# Altium integrated library Linear Technology Power Management Hot Swap Controllers.IntLib: 992 symbols (part 3 of 93)
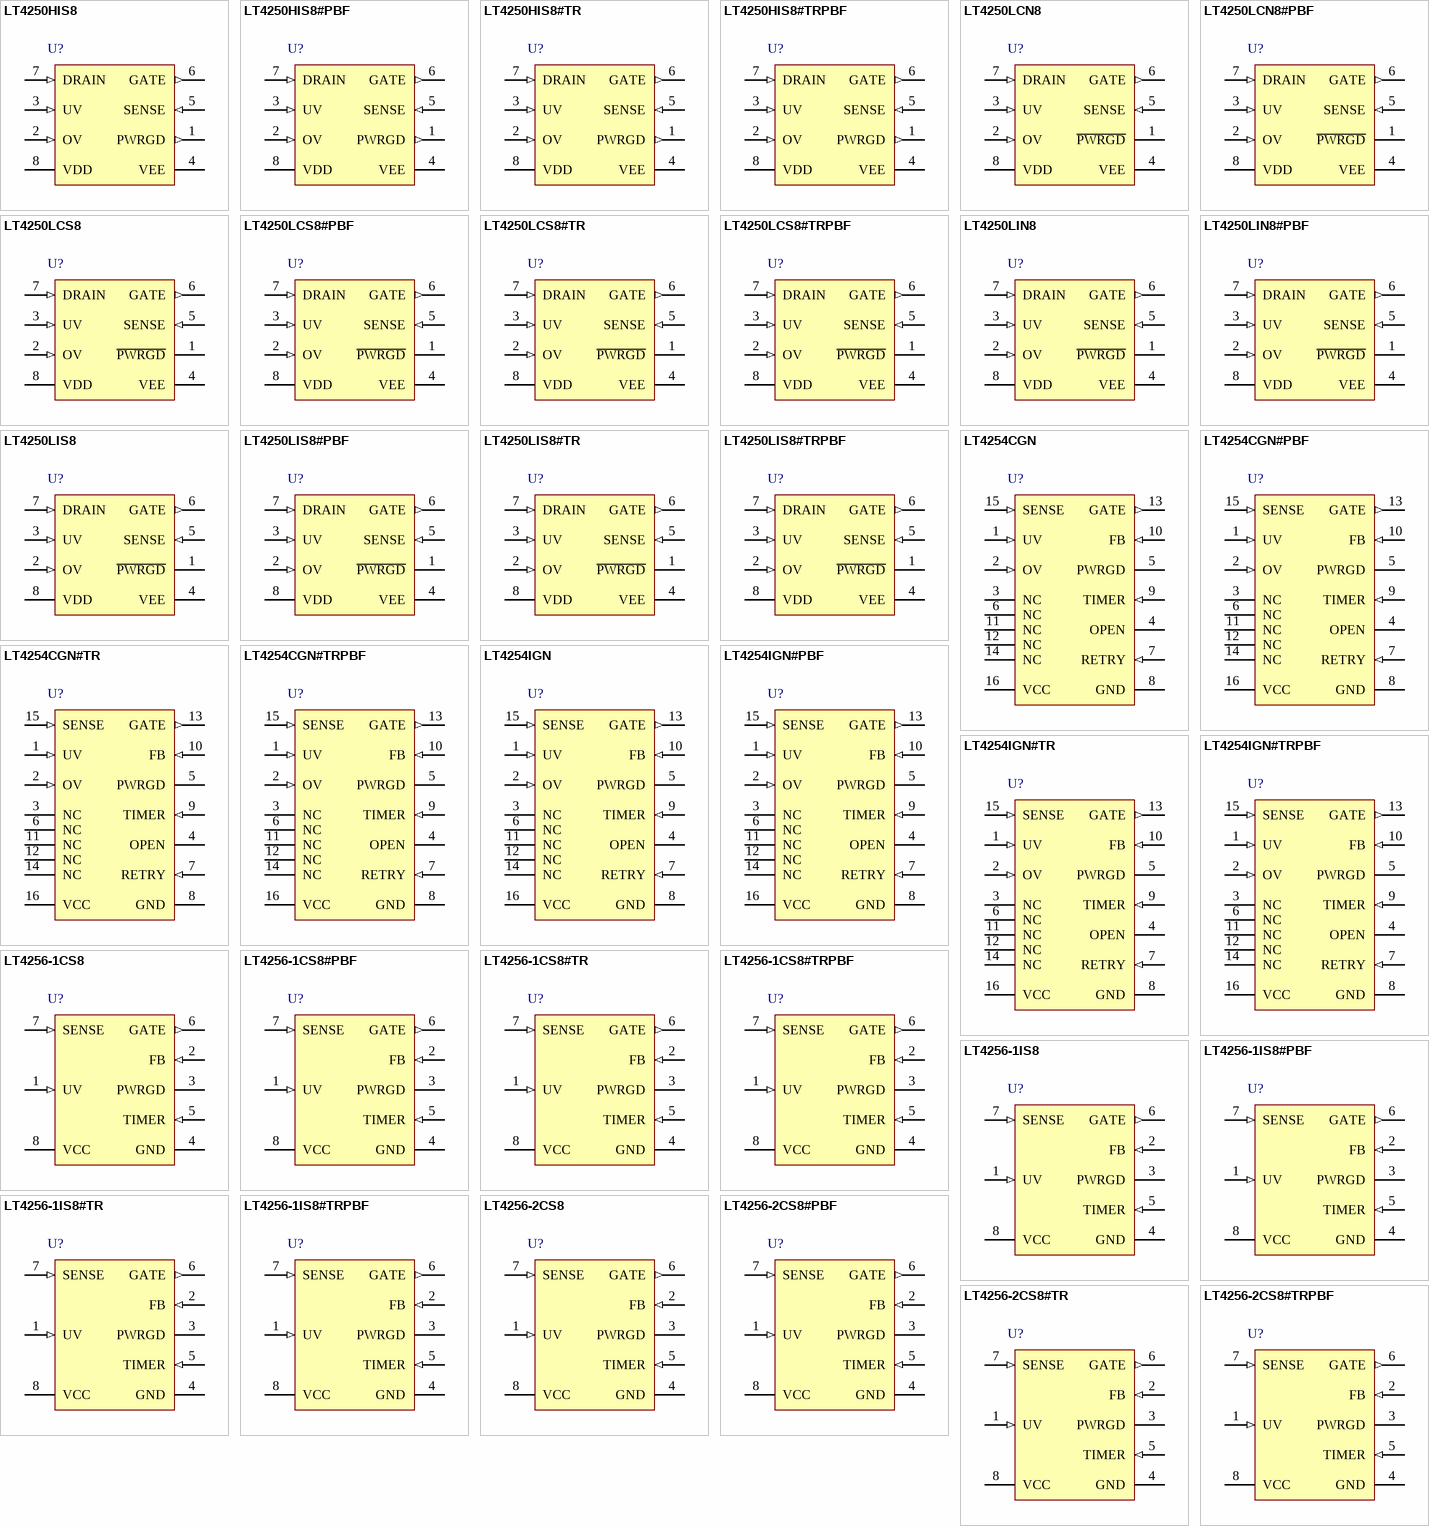
[diagram p39: symbols LT4250HIS8 to LT4256-2CS8#TRPBF]

## LT4250HIS8
designator U?
Negative 48 V Hot Swap Controller, -18 to -80 V Vin, 8-pin SOIC (S8-8), -40 to 85 degC; Manufacturer: Linear Technology; PartNumber: LT4250HIS8; Active Limiting: yes; Circuit Breaker Accuracy(%): 20; Circuit Breaker Threshold: 50 mV; Circuit Breakers(#): 1; Extended Temp: C, I; Fast Comparator: no; In-Rush Current: Miller Cap; DatasheetVersion: Rev. A; PackageVersion: Rev. G, 03/2012; PackageReference: S8-8; PackageDescription: 8-Pin Plastic Small Outline (Narrow .150 Inch), Body 4.9 x 3.9 mm, Pitch 1.27 mm; Supplier 1: Digi-Key; Supplier Part Number 1: LT4250HIS8-ND; Power Good: yes; RoHS: FALSE; Vin Range: -18 to -80 V; Mounting Technology: Surface Mount; ComponentLink1Description: Manufacturer URL; ComponentLink1URL: http://www.linear.com/; ComponentLink2Description: Datasheet; ComponentLink2URL: http://cds.linear.com/docs/en/datasheet/4250lhfa.pdf; ComponentLink3Description: Package Specification; ComponentLink3URL: http://cds.linear.com/docs/en/packaging/05081610_G_SO8.pdf
footprint LT-S8-8_N (SOIC, 8-Leads, Body 5x4mm, Pitch 1.27mm, IPC Medium Density)
footprint LT-S8-8_L (SOIC, 8-Leads, Body 5x4mm, Pitch 1.27mm, IPC High Density)
footprint LT-S8-8_M (SOIC, 8-Leads, Body 5x4mm, Pitch 1.27mm, IPC Low Density)
pins: 1 PWRGD (out) "Power Good Output Pin.This pin will latch a power good indication when VDRAIN is within VDL of VEE and VGATE is within VGH of deltaVGATE. This pin can be connected directly to the enable pin of a power module.", 2 OV (in) "Analog Overvoltage Input.", 3 UV (in) "Analog Undervoltage Input.", 4 VEE (power) "Negative Supply Voltage Input. Connect to the lower potential of the power supply.", 5 SENSE (in) "Circuit Breaker Sense Pin.", 6 GATE (out) "Gate Drive Output for the External N-channel MOSFET.", 7 DRAIN (in) "Analog Drain Sense Input.", 8 VDD (power) "Positive Supply Voltage Input."

## LT4250HIS8#PBF
designator U?
Negative 48 V Hot Swap Controller, -18 to -80 V Vin, 8-pin SOIC (S8-8), -40 to 85 degC, Pb-Free; Manufacturer: Linear Technology; PartNumber: LT4250HIS8#PBF; Active Limiting: yes; Circuit Breaker Accuracy(%): 20; Circuit Breaker Threshold: 50 mV; Circuit Breakers(#): 1; Extended Temp: C, I; Fast Comparator: no; In-Rush Current: Miller Cap; DatasheetVersion: Rev. A; PackageVersion: Rev. G, 03/2012; PackageReference: S8-8; PackageDescription: 8-Pin Plastic Small Outline (Narrow .150 Inch), Body 4.9 x 3.9 mm, Pitch 1.27 mm; Supplier 1: Digi-Key; Supplier Part Number 1: LT4250HIS8#PBF-ND; Supplier 2: Newark; Supplier Part Number 2: 57M8658; Power Good: yes; RoHS: TRUE; Vin Range: -18 to -80 V; Mounting Technology: Surface Mount; ComponentLink1Description: Manufacturer URL; ComponentLink1URL: http://www.linear.com/; ComponentLink2Description: Datasheet; ComponentLink2URL: http://cds.linear.com/docs/en/datasheet/4250lhfa.pdf; ComponentLink3Description: Package Specification; ComponentLink3URL: http://cds.linear.com/docs/en/packaging/05081610_G_SO8.pdf
footprint LT-S8-8_N (SOIC, 8-Leads, Body 5x4mm, Pitch 1.27mm, IPC Medium Density)
footprint LT-S8-8_L (SOIC, 8-Leads, Body 5x4mm, Pitch 1.27mm, IPC High Density)
footprint LT-S8-8_M (SOIC, 8-Leads, Body 5x4mm, Pitch 1.27mm, IPC Low Density)
pins: 1 PWRGD (out) "Power Good Output Pin.This pin will latch a power good indication when VDRAIN is within VDL of VEE and VGATE is within VGH of deltaVGATE. This pin can be connected directly to the enable pin of a power module.", 2 OV (in) "Analog Overvoltage Input.", 3 UV (in) "Analog Undervoltage Input.", 4 VEE (power) "Negative Supply Voltage Input. Connect to the lower potential of the power supply.", 5 SENSE (in) "Circuit Breaker Sense Pin.", 6 GATE (out) "Gate Drive Output for the External N-channel MOSFET.", 7 DRAIN (in) "Analog Drain Sense Input.", 8 VDD (power) "Positive Supply Voltage Input."

## LT4250HIS8#TR
designator U?
Negative 48 V Hot Swap Controller, -18 to -80 V Vin, 8-pin SOIC (S8-8), -40 to 85 degC, Tape and Reel; Manufacturer: Linear Technology; PartNumber: LT4250HIS8#TR; Active Limiting: yes; Circuit Breaker Accuracy(%): 20; Circuit Breaker Threshold: 50 mV; Circuit Breakers(#): 1; Extended Temp: C, I; Fast Comparator: no; In-Rush Current: Miller Cap; DatasheetVersion: Rev. A; PackageVersion: Rev. G, 03/2012; PackageReference: S8-8; PackageDescription: 8-Pin Plastic Small Outline (Narrow .150 Inch), Body 4.9 x 3.9 mm, Pitch 1.27 mm; Supplier 1: Digi-Key; Supplier Part Number 1: LT4250HIS8TR-ND; Packing: Tape and Reel; Power Good: yes; RoHS: FALSE; Vin Range: -18 to -80 V; Mounting Technology: Surface Mount; ComponentLink1Description: Manufacturer URL; ComponentLink1URL: http://www.linear.com/; ComponentLink2Description: Datasheet; ComponentLink2URL: http://cds.linear.com/docs/en/datasheet/4250lhfa.pdf; ComponentLink3Description: Package Specification; ComponentLink3URL: http://cds.linear.com/docs/en/packaging/05081610_G_SO8.pdf
footprint LT-S8-8_N (SOIC, 8-Leads, Body 5x4mm, Pitch 1.27mm, IPC Medium Density)
footprint LT-S8-8_L (SOIC, 8-Leads, Body 5x4mm, Pitch 1.27mm, IPC High Density)
footprint LT-S8-8_M (SOIC, 8-Leads, Body 5x4mm, Pitch 1.27mm, IPC Low Density)
pins: 1 PWRGD (out) "Power Good Output Pin.This pin will latch a power good indication when VDRAIN is within VDL of VEE and VGATE is within VGH of deltaVGATE. This pin can be connected directly to the enable pin of a power module.", 2 OV (in) "Analog Overvoltage Input.", 3 UV (in) "Analog Undervoltage Input.", 4 VEE (power) "Negative Supply Voltage Input. Connect to the lower potential of the power supply.", 5 SENSE (in) "Circuit Breaker Sense Pin.", 6 GATE (out) "Gate Drive Output for the External N-channel MOSFET.", 7 DRAIN (in) "Analog Drain Sense Input.", 8 VDD (power) "Positive Supply Voltage Input."

## LT4250HIS8#TRPBF
designator U?
Negative 48 V Hot Swap Controller, -18 to -80 V Vin, 8-pin SOIC (S8-8), -40 to 85 degC, Pb-Free, Tape and Reel; Manufacturer: Linear Technology; PartNumber: LT4250HIS8#TRPBF; Active Limiting: yes; Circuit Breaker Accuracy(%): 20; Circuit Breaker Threshold: 50 mV; Circuit Breakers(#): 1; Extended Temp: C, I; Fast Comparator: no; In-Rush Current: Miller Cap; DatasheetVersion: Rev. A; PackageVersion: Rev. G, 03/2012; PackageReference: S8-8; PackageDescription: 8-Pin Plastic Small Outline (Narrow .150 Inch), Body 4.9 x 3.9 mm, Pitch 1.27 mm; Supplier 1: Digi-Key; Supplier Part Number 1: LT4250HIS8#TRPBF-ND; Supplier 2: Newark; Supplier Part Number 2: 57M8660; Packing: Tape and Reel; Power Good: yes; RoHS: TRUE; Vin Range: -18 to -80 V; Mounting Technology: Surface Mount; ComponentLink1Description: Manufacturer URL; ComponentLink1URL: http://www.linear.com/; ComponentLink2Description: Datasheet; ComponentLink2URL: http://cds.linear.com/docs/en/datasheet/4250lhfa.pdf; ComponentLink3Description: Package Specification; ComponentLink3URL: http://cds.linear.com/docs/en/packaging/05081610_G_SO8.pdf
footprint LT-S8-8_N (SOIC, 8-Leads, Body 5x4mm, Pitch 1.27mm, IPC Medium Density)
footprint LT-S8-8_L (SOIC, 8-Leads, Body 5x4mm, Pitch 1.27mm, IPC High Density)
footprint LT-S8-8_M (SOIC, 8-Leads, Body 5x4mm, Pitch 1.27mm, IPC Low Density)
pins: 1 PWRGD (out) "Power Good Output Pin.This pin will latch a power good indication when VDRAIN is within VDL of VEE and VGATE is within VGH of deltaVGATE. This pin can be connected directly to the enable pin of a power module.", 2 OV (in) "Analog Overvoltage Input.", 3 UV (in) "Analog Undervoltage Input.", 4 VEE (power) "Negative Supply Voltage Input. Connect to the lower potential of the power supply.", 5 SENSE (in) "Circuit Breaker Sense Pin.", 6 GATE (out) "Gate Drive Output for the External N-channel MOSFET.", 7 DRAIN (in) "Analog Drain Sense Input.", 8 VDD (power) "Positive Supply Voltage Input."

## LT4250LCN8
designator U?
Negative 48 V Hot Swap Controller, -18 to -80 V Vin, 8-pin DIP (N8-8), 0 to 70 degC; Manufacturer: Linear Technology; PartNumber: LT4250LCN8; Active Limiting: yes; Circuit Breaker Accuracy(%): 20; Circuit Breaker Threshold: 50 mV; Circuit Breakers(#): 1; Extended Temp: C, I; Fast Comparator: no; In-Rush Current: Miller Cap; DatasheetVersion: Rev. A; PackageVersion: Rev. I, 07/2011; PackageReference: N8-8; PackageDescription: 8-Pin PDIP, Body 10.16 x 6.48 mm, Pitch 2.54 mm; Supplier 1: Digi-Key; Supplier Part Number 1: LT4250LCN8-ND; Fault: no; Foldback: no; Power Good: yes; Reset: no; RoHS: FALSE; Vin Range: -18 to -80 V; Mounting Technology: Through Hole; ComponentLink1Description: Manufacturer URL; ComponentLink1URL: http://www.linear.com/; ComponentLink2Description: Datasheet; ComponentLink2URL: http://cds.linear.com/docs/en/datasheet/4250lhfa.pdf; ComponentLink3Description: Package Specification; ComponentLink3URL: http://www.linear.com/docs/en/packaging/05081510_I_N8.pdf
footprint LT-N8-8 (DIP, 8-Leads, Body 10.15x6.85mm, Pitch 2.54mm)
pins: 1 ~{PWRGD} (hiz) "Power Good Output Pin.This pin will latch a power good indication when VDRAIN is within VDL of VEE and VGATE is within VGH of deltaVGATE. This pin can be connected directly to the enable pin of a power module.", 2 OV (in) "Analog Overvoltage Input.", 3 UV (in) "Analog Undervoltage Input.", 4 VEE (power) "Negative Supply Voltage Input. Connect to the lower potential of the power supply.", 5 SENSE (in) "Circuit Breaker Sense Pin.", 6 GATE (out) "Gate Drive Output for the External N-channel MOSFET.", 7 DRAIN (in) "Analog Drain Sense Input.", 8 VDD (power) "Positive Supply Voltage Input."

## LT4250LCN8#PBF
designator U?
Negative 48 V Hot Swap Controller, -18 to -80 V Vin, 8-pin DIP (N8-8), 0 to 70 degC, Pb-Free; Manufacturer: Linear Technology; PartNumber: LT4250LCN8#PBF; Active Limiting: yes; Circuit Breaker Accuracy(%): 20; Circuit Breaker Threshold: 50 mV; Circuit Breakers(#): 1; Extended Temp: C, I; Fast Comparator: no; In-Rush Current: Miller Cap; DatasheetVersion: Rev. A; PackageVersion: Rev. I, 07/2011; PackageReference: N8-8; PackageDescription: 8-Pin PDIP, Body 10.16 x 6.48 mm, Pitch 2.54 mm; Supplier 1: Digi-Key; Supplier Part Number 1: LT4250LCN8#PBF-ND; Fault: no; Foldback: no; Power Good: yes; Reset: no; RoHS: TRUE; Vin Range: -18 to -80 V; Mounting Technology: Through Hole; ComponentLink1Description: Manufacturer URL; ComponentLink1URL: http://www.linear.com/; ComponentLink2Description: Datasheet; ComponentLink2URL: http://cds.linear.com/docs/en/datasheet/4250lhfa.pdf; ComponentLink3Description: Package Specification; ComponentLink3URL: http://www.linear.com/docs/en/packaging/05081510_I_N8.pdf
footprint LT-N8-8 (DIP, 8-Leads, Body 10.15x6.85mm, Pitch 2.54mm)
pins: 1 ~{PWRGD} (hiz) "Power Good Output Pin.This pin will latch a power good indication when VDRAIN is within VDL of VEE and VGATE is within VGH of deltaVGATE. This pin can be connected directly to the enable pin of a power module.", 2 OV (in) "Analog Overvoltage Input.", 3 UV (in) "Analog Undervoltage Input.", 4 VEE (power) "Negative Supply Voltage Input. Connect to the lower potential of the power supply.", 5 SENSE (in) "Circuit Breaker Sense Pin.", 6 GATE (out) "Gate Drive Output for the External N-channel MOSFET.", 7 DRAIN (in) "Analog Drain Sense Input.", 8 VDD (power) "Positive Supply Voltage Input."

## LT4250LCS8
designator U?
Negative 48 V Hot Swap Controller, -18 to -80 V Vin, 8-pin SOIC (S8-8), 0 to 70 degC; Manufacturer: Linear Technology; PartNumber: LT4250LCS8; Active Limiting: yes; Circuit Breaker Accuracy(%): 20; Circuit Breaker Threshold: 50 mV; Circuit Breakers(#): 1; Extended Temp: C, I; Fast Comparator: no; In-Rush Current: Miller Cap; DatasheetVersion: Rev. A; PackageVersion: Rev. G, 03/2012; PackageReference: S8-8; PackageDescription: 8-Pin Plastic Small Outline (Narrow .150 Inch), Body 4.9 x 3.9 mm, Pitch 1.27 mm; Supplier 1: Digi-Key; Supplier Part Number 1: LT4250LCS8-ND; Fault: no; Foldback: no; Power Good: yes; Reset: no; RoHS: FALSE; Vin Range: -18 to -80 V; Mounting Technology: Surface Mount; ComponentLink1Description: Manufacturer URL; ComponentLink1URL: http://www.linear.com/; ComponentLink2Description: Datasheet; ComponentLink2URL: http://cds.linear.com/docs/en/datasheet/4250lhfa.pdf; ComponentLink3Description: Package Specification; ComponentLink3URL: http://cds.linear.com/docs/en/packaging/05081610_G_SO8.pdf
footprint LT-S8-8_N (SOIC, 8-Leads, Body 5x4mm, Pitch 1.27mm, IPC Medium Density)
footprint LT-S8-8_L (SOIC, 8-Leads, Body 5x4mm, Pitch 1.27mm, IPC High Density)
footprint LT-S8-8_M (SOIC, 8-Leads, Body 5x4mm, Pitch 1.27mm, IPC Low Density)
pins: 1 ~{PWRGD} (hiz) "Power Good Output Pin.This pin will latch a power good indication when VDRAIN is within VDL of VEE and VGATE is within VGH of deltaVGATE. This pin can be connected directly to the enable pin of a power module.", 2 OV (in) "Analog Overvoltage Input.", 3 UV (in) "Analog Undervoltage Input.", 4 VEE (power) "Negative Supply Voltage Input. Connect to the lower potential of the power supply.", 5 SENSE (in) "Circuit Breaker Sense Pin.", 6 GATE (out) "Gate Drive Output for the External N-channel MOSFET.", 7 DRAIN (in) "Analog Drain Sense Input.", 8 VDD (power) "Positive Supply Voltage Input."

## LT4250LCS8#PBF
designator U?
Negative 48 V Hot Swap Controller, -18 to -80 V Vin, 8-pin SOIC (S8-8), 0 to 70 degC, Pb-Free; Manufacturer: Linear Technology; PartNumber: LT4250LCS8#PBF; Active Limiting: yes; Circuit Breaker Accuracy(%): 20; Circuit Breaker Threshold: 50 mV; Circuit Breakers(#): 1; Extended Temp: C, I; Fast Comparator: no; In-Rush Current: Miller Cap; DatasheetVersion: Rev. A; PackageVersion: Rev. G, 03/2012; PackageReference: S8-8; PackageDescription: 8-Pin Plastic Small Outline (Narrow .150 Inch), Body 4.9 x 3.9 mm, Pitch 1.27 mm; Supplier 1: Digi-Key; Supplier Part Number 1: LT4250LCS8#PBF-ND; Supplier 2: Newark; Supplier Part Number 2: 57M8664; Fault: no; Foldback: no; Power Good: yes; Reset: no; RoHS: TRUE; Vin Range: -18 to -80 V; Mounting Technology: Surface Mount; ComponentLink1Description: Manufacturer URL; ComponentLink1URL: http://www.linear.com/; ComponentLink2Description: Datasheet; ComponentLink2URL: http://cds.linear.com/docs/en/datasheet/4250lhfa.pdf; ComponentLink3Description: Package Specification; ComponentLink3URL: http://cds.linear.com/docs/en/packaging/05081610_G_SO8.pdf
footprint LT-S8-8_N (SOIC, 8-Leads, Body 5x4mm, Pitch 1.27mm, IPC Medium Density)
footprint LT-S8-8_L (SOIC, 8-Leads, Body 5x4mm, Pitch 1.27mm, IPC High Density)
footprint LT-S8-8_M (SOIC, 8-Leads, Body 5x4mm, Pitch 1.27mm, IPC Low Density)
pins: 1 ~{PWRGD} (hiz) "Power Good Output Pin.This pin will latch a power good indication when VDRAIN is within VDL of VEE and VGATE is within VGH of deltaVGATE. This pin can be connected directly to the enable pin of a power module.", 2 OV (in) "Analog Overvoltage Input.", 3 UV (in) "Analog Undervoltage Input.", 4 VEE (power) "Negative Supply Voltage Input. Connect to the lower potential of the power supply.", 5 SENSE (in) "Circuit Breaker Sense Pin.", 6 GATE (out) "Gate Drive Output for the External N-channel MOSFET.", 7 DRAIN (in) "Analog Drain Sense Input.", 8 VDD (power) "Positive Supply Voltage Input."

## LT4250LCS8#TR
designator U?
Negative 48 V Hot Swap Controller, -18 to -80 V Vin, 8-pin SOIC (S8-8), 0 to 70 degC, Tape and Reel; Manufacturer: Linear Technology; PartNumber: LT4250LCS8#TR; Active Limiting: yes; Circuit Breaker Accuracy(%): 20; Circuit Breaker Threshold: 50 mV; Circuit Breakers(#): 1; Extended Temp: C, I; Fast Comparator: no; In-Rush Current: Miller Cap; DatasheetVersion: Rev. A; PackageVersion: Rev. G, 03/2012; PackageReference: S8-8; PackageDescription: 8-Pin Plastic Small Outline (Narrow .150 Inch), Body 4.9 x 3.9 mm, Pitch 1.27 mm; Supplier 1: Digi-Key; Supplier Part Number 1: LT4250LCS8TR-ND; Fault: no; Foldback: no; Packing: Tape and Reel; Power Good: yes; Reset: no; RoHS: FALSE; Vin Range: -18 to -80 V; Mounting Technology: Surface Mount; ComponentLink1Description: Manufacturer URL; ComponentLink1URL: http://www.linear.com/; ComponentLink2Description: Datasheet; ComponentLink2URL: http://cds.linear.com/docs/en/datasheet/4250lhfa.pdf; ComponentLink3Description: Package Specification; ComponentLink3URL: http://cds.linear.com/docs/en/packaging/05081610_G_SO8.pdf
footprint LT-S8-8_N (SOIC, 8-Leads, Body 5x4mm, Pitch 1.27mm, IPC Medium Density)
footprint LT-S8-8_L (SOIC, 8-Leads, Body 5x4mm, Pitch 1.27mm, IPC High Density)
footprint LT-S8-8_M (SOIC, 8-Leads, Body 5x4mm, Pitch 1.27mm, IPC Low Density)
pins: 1 ~{PWRGD} (hiz) "Power Good Output Pin.This pin will latch a power good indication when VDRAIN is within VDL of VEE and VGATE is within VGH of deltaVGATE. This pin can be connected directly to the enable pin of a power module.", 2 OV (in) "Analog Overvoltage Input.", 3 UV (in) "Analog Undervoltage Input.", 4 VEE (power) "Negative Supply Voltage Input. Connect to the lower potential of the power supply.", 5 SENSE (in) "Circuit Breaker Sense Pin.", 6 GATE (out) "Gate Drive Output for the External N-channel MOSFET.", 7 DRAIN (in) "Analog Drain Sense Input.", 8 VDD (power) "Positive Supply Voltage Input."

## LT4250LCS8#TRPBF
designator U?
Negative 48 V Hot Swap Controller, -18 to -80 V Vin, 8-pin SOIC (S8-8), 0 to 70 degC, Pb-Free, Tape and Reel; Manufacturer: Linear Technology; PartNumber: LT4250LCS8#TRPBF; Active Limiting: yes; Circuit Breaker Accuracy(%): 20; Circuit Breaker Threshold: 50 mV; Circuit Breakers(#): 1; Extended Temp: C, I; Fast Comparator: no; In-Rush Current: Miller Cap; DatasheetVersion: Rev. A; PackageVersion: Rev. G, 03/2012; PackageReference: S8-8; PackageDescription: 8-Pin Plastic Small Outline (Narrow .150 Inch), Body 4.9 x 3.9 mm, Pitch 1.27 mm; Supplier 1: Digi-Key; Supplier Part Number 1: LT4250LCS8#TRPBF-ND; Supplier 2: Newark; Supplier Part Number 2: 57M8666; Fault: no; Foldback: no; Packing: Tape and Reel; Power Good: yes; Reset: no; RoHS: TRUE; Vin Range: -18 to -80 V; Mounting Technology: Surface Mount; ComponentLink1Description: Manufacturer URL; ComponentLink1URL: http://www.linear.com/; ComponentLink2Description: Datasheet; ComponentLink2URL: http://cds.linear.com/docs/en/datasheet/4250lhfa.pdf; ComponentLink3Description: Package Specification; ComponentLink3URL: http://cds.linear.com/docs/en/packaging/05081610_G_SO8.pdf
footprint LT-S8-8_N (SOIC, 8-Leads, Body 5x4mm, Pitch 1.27mm, IPC Medium Density)
footprint LT-S8-8_L (SOIC, 8-Leads, Body 5x4mm, Pitch 1.27mm, IPC High Density)
footprint LT-S8-8_M (SOIC, 8-Leads, Body 5x4mm, Pitch 1.27mm, IPC Low Density)
pins: 1 ~{PWRGD} (hiz) "Power Good Output Pin.This pin will latch a power good indication when VDRAIN is within VDL of VEE and VGATE is within VGH of deltaVGATE. This pin can be connected directly to the enable pin of a power module.", 2 OV (in) "Analog Overvoltage Input.", 3 UV (in) "Analog Undervoltage Input.", 4 VEE (power) "Negative Supply Voltage Input. Connect to the lower potential of the power supply.", 5 SENSE (in) "Circuit Breaker Sense Pin.", 6 GATE (out) "Gate Drive Output for the External N-channel MOSFET.", 7 DRAIN (in) "Analog Drain Sense Input.", 8 VDD (power) "Positive Supply Voltage Input."

## LT4250LIN8
designator U?
Negative 48 V Hot Swap Controller, -18 to -80 V Vin, 8-pin DIP (N8-8), -40 to 85 degC; Manufacturer: Linear Technology; PartNumber: LT4250LIN8; Active Limiting: yes; Circuit Breaker Accuracy(%): 20; Circuit Breaker Threshold: 50 mV; Circuit Breakers(#): 1; Extended Temp: C, I; Fast Comparator: no; In-Rush Current: Miller Cap; DatasheetVersion: Rev. A; PackageVersion: Rev. I, 07/2011; PackageReference: N8-8; PackageDescription: 8-Pin PDIP, Body 10.16 x 6.48 mm, Pitch 2.54 mm; Supplier 1: Digi-Key; Supplier Part Number 1: LT4250LIN8-ND; Fault: no; Foldback: no; Power Good: yes; Reset: no; RoHS: FALSE; Vin Range: -18 to -80 V; Mounting Technology: Through Hole; ComponentLink1Description: Manufacturer URL; ComponentLink1URL: http://www.linear.com/; ComponentLink2Description: Datasheet; ComponentLink2URL: http://cds.linear.com/docs/en/datasheet/4250lhfa.pdf; ComponentLink3Description: Package Specification; ComponentLink3URL: http://www.linear.com/docs/en/packaging/05081510_I_N8.pdf
footprint LT-N8-8 (DIP, 8-Leads, Body 10.15x6.85mm, Pitch 2.54mm)
pins: 1 ~{PWRGD} (hiz) "Power Good Output Pin.This pin will latch a power good indication when VDRAIN is within VDL of VEE and VGATE is within VGH of deltaVGATE. This pin can be connected directly to the enable pin of a power module.", 2 OV (in) "Analog Overvoltage Input.", 3 UV (in) "Analog Undervoltage Input.", 4 VEE (power) "Negative Supply Voltage Input. Connect to the lower potential of the power supply.", 5 SENSE (in) "Circuit Breaker Sense Pin.", 6 GATE (out) "Gate Drive Output for the External N-channel MOSFET.", 7 DRAIN (in) "Analog Drain Sense Input.", 8 VDD (power) "Positive Supply Voltage Input."

## LT4250LIN8#PBF
designator U?
Negative 48 V Hot Swap Controller, -18 to -80 V Vin, 8-pin DIP (N8-8), -40 to 85 degC, Pb-Free; Manufacturer: Linear Technology; PartNumber: LT4250LIN8#PBF; Active Limiting: yes; Circuit Breaker Accuracy(%): 20; Circuit Breaker Threshold: 50 mV; Circuit Breakers(#): 1; Extended Temp: C, I; Fast Comparator: no; In-Rush Current: Miller Cap; DatasheetVersion: Rev. A; PackageVersion: Rev. I, 07/2011; PackageReference: N8-8; PackageDescription: 8-Pin PDIP, Body 10.16 x 6.48 mm, Pitch 2.54 mm; Supplier 1: Digi-Key; Supplier Part Number 1: LT4250LIN8#PBF-ND; Fault: no; Foldback: no; Power Good: yes; Reset: no; RoHS: TRUE; Vin Range: -18 to -80 V; Mounting Technology: Through Hole; ComponentLink1Description: Manufacturer URL; ComponentLink1URL: http://www.linear.com/; ComponentLink2Description: Datasheet; ComponentLink2URL: http://cds.linear.com/docs/en/datasheet/4250lhfa.pdf; ComponentLink3Description: Package Specification; ComponentLink3URL: http://www.linear.com/docs/en/packaging/05081510_I_N8.pdf
footprint LT-N8-8 (DIP, 8-Leads, Body 10.15x6.85mm, Pitch 2.54mm)
pins: 1 ~{PWRGD} (hiz) "Power Good Output Pin.This pin will latch a power good indication when VDRAIN is within VDL of VEE and VGATE is within VGH of deltaVGATE. This pin can be connected directly to the enable pin of a power module.", 2 OV (in) "Analog Overvoltage Input.", 3 UV (in) "Analog Undervoltage Input.", 4 VEE (power) "Negative Supply Voltage Input. Connect to the lower potential of the power supply.", 5 SENSE (in) "Circuit Breaker Sense Pin.", 6 GATE (out) "Gate Drive Output for the External N-channel MOSFET.", 7 DRAIN (in) "Analog Drain Sense Input.", 8 VDD (power) "Positive Supply Voltage Input."

## LT4250LIS8
designator U?
Negative 48 V Hot Swap Controller, -18 to -80 V Vin, 8-pin SOIC (S8-8), -40 to 85 degC; Manufacturer: Linear Technology; PartNumber: LT4250LIS8; Active Limiting: yes; Circuit Breaker Accuracy(%): 20; Circuit Breaker Threshold: 50 mV; Circuit Breakers(#): 1; Extended Temp: C, I; Fast Comparator: no; In-Rush Current: Miller Cap; DatasheetVersion: Rev. A; PackageVersion: Rev. G, 03/2012; PackageReference: S8-8; PackageDescription: 8-Pin Plastic Small Outline (Narrow .150 Inch), Body 4.9 x 3.9 mm, Pitch 1.27 mm; Supplier 1: Digi-Key; Supplier Part Number 1: LT4250LIS8-ND; Supplier 2: Newark; Supplier Part Number 2: 57M8669; Fault: no; Foldback: no; Power Good: yes; Reset: no; RoHS: FALSE; Vin Range: -18 to -80 V; Mounting Technology: Surface Mount; ComponentLink1Description: Manufacturer URL; ComponentLink1URL: http://www.linear.com/; ComponentLink2Description: Datasheet; ComponentLink2URL: http://cds.linear.com/docs/en/datasheet/4250lhfa.pdf; ComponentLink3Description: Package Specification; ComponentLink3URL: http://cds.linear.com/docs/en/packaging/05081610_G_SO8.pdf
footprint LT-S8-8_N (SOIC, 8-Leads, Body 5x4mm, Pitch 1.27mm, IPC Medium Density)
footprint LT-S8-8_L (SOIC, 8-Leads, Body 5x4mm, Pitch 1.27mm, IPC High Density)
footprint LT-S8-8_M (SOIC, 8-Leads, Body 5x4mm, Pitch 1.27mm, IPC Low Density)
pins: 1 ~{PWRGD} (hiz) "Power Good Output Pin.This pin will latch a power good indication when VDRAIN is within VDL of VEE and VGATE is within VGH of deltaVGATE. This pin can be connected directly to the enable pin of a power module.", 2 OV (in) "Analog Overvoltage Input.", 3 UV (in) "Analog Undervoltage Input.", 4 VEE (power) "Negative Supply Voltage Input. Connect to the lower potential of the power supply.", 5 SENSE (in) "Circuit Breaker Sense Pin.", 6 GATE (out) "Gate Drive Output for the External N-channel MOSFET.", 7 DRAIN (in) "Analog Drain Sense Input.", 8 VDD (power) "Positive Supply Voltage Input."

## LT4250LIS8#PBF
designator U?
Negative 48 V Hot Swap Controller, -18 to -80 V Vin, 8-pin SOIC (S8-8), -40 to 85 degC, Pb-Free; Manufacturer: Linear Technology; PartNumber: LT4250LIS8#PBF; Active Limiting: yes; Circuit Breaker Accuracy(%): 20; Circuit Breaker Threshold: 50 mV; Circuit Breakers(#): 1; Extended Temp: C, I; Fast Comparator: no; In-Rush Current: Miller Cap; DatasheetVersion: Rev. A; PackageVersion: Rev. G, 03/2012; PackageReference: S8-8; PackageDescription: 8-Pin Plastic Small Outline (Narrow .150 Inch), Body 4.9 x 3.9 mm, Pitch 1.27 mm; Supplier 1: Digi-Key; Supplier Part Number 1: LT4250LIS8#PBF-ND; Supplier 2: Farnell; Supplier Part Number 2: 2295304; Supplier 3: Newark; Supplier Part Number 3: 57M8670; Fault: no; Foldback: no; Power Good: yes; Reset: no; RoHS: TRUE; Vin Range: -18 to -80 V; Mounting Technology: Surface Mount; ComponentLink1Description: Manufacturer URL; ComponentLink1URL: http://www.linear.com/; ComponentLink2Description: Datasheet; ComponentLink2URL: http://cds.linear.com/docs/en/datasheet/4250lhfa.pdf; ComponentLink3Description: Package Specification; ComponentLink3URL: http://cds.linear.com/docs/en/packaging/05081610_G_SO8.pdf
footprint LT-S8-8_N (SOIC, 8-Leads, Body 5x4mm, Pitch 1.27mm, IPC Medium Density)
footprint LT-S8-8_L (SOIC, 8-Leads, Body 5x4mm, Pitch 1.27mm, IPC High Density)
footprint LT-S8-8_M (SOIC, 8-Leads, Body 5x4mm, Pitch 1.27mm, IPC Low Density)
pins: 1 ~{PWRGD} (hiz) "Power Good Output Pin.This pin will latch a power good indication when VDRAIN is within VDL of VEE and VGATE is within VGH of deltaVGATE. This pin can be connected directly to the enable pin of a power module.", 2 OV (in) "Analog Overvoltage Input.", 3 UV (in) "Analog Undervoltage Input.", 4 VEE (power) "Negative Supply Voltage Input. Connect to the lower potential of the power supply.", 5 SENSE (in) "Circuit Breaker Sense Pin.", 6 GATE (out) "Gate Drive Output for the External N-channel MOSFET.", 7 DRAIN (in) "Analog Drain Sense Input.", 8 VDD (power) "Positive Supply Voltage Input."

## LT4250LIS8#TR
designator U?
Negative 48 V Hot Swap Controller, -18 to -80 V Vin, 8-pin SOIC (S8-8), -40 to 85 degC, Tape and Reel; Manufacturer: Linear Technology; PartNumber: LT4250LIS8#TR; Active Limiting: yes; Circuit Breaker Accuracy(%): 20; Circuit Breaker Threshold: 50 mV; Circuit Breakers(#): 1; Extended Temp: C, I; Fast Comparator: no; In-Rush Current: Miller Cap; DatasheetVersion: Rev. A; PackageVersion: Rev. G, 03/2012; PackageReference: S8-8; PackageDescription: 8-Pin Plastic Small Outline (Narrow .150 Inch), Body 4.9 x 3.9 mm, Pitch 1.27 mm; Supplier 1: Digi-Key; Supplier Part Number 1: LT4250LIS8TR-ND; Fault: no; Foldback: no; Packing: Tape and Reel; Power Good: yes; Reset: no; RoHS: FALSE; Vin Range: -18 to -80 V; Mounting Technology: Surface Mount; ComponentLink1Description: Manufacturer URL; ComponentLink1URL: http://www.linear.com/; ComponentLink2Description: Datasheet; ComponentLink2URL: http://cds.linear.com/docs/en/datasheet/4250lhfa.pdf; ComponentLink3Description: Package Specification; ComponentLink3URL: http://cds.linear.com/docs/en/packaging/05081610_G_SO8.pdf
footprint LT-S8-8_N (SOIC, 8-Leads, Body 5x4mm, Pitch 1.27mm, IPC Medium Density)
footprint LT-S8-8_L (SOIC, 8-Leads, Body 5x4mm, Pitch 1.27mm, IPC High Density)
footprint LT-S8-8_M (SOIC, 8-Leads, Body 5x4mm, Pitch 1.27mm, IPC Low Density)
pins: 1 ~{PWRGD} (hiz) "Power Good Output Pin.This pin will latch a power good indication when VDRAIN is within VDL of VEE and VGATE is within VGH of deltaVGATE. This pin can be connected directly to the enable pin of a power module.", 2 OV (in) "Analog Overvoltage Input.", 3 UV (in) "Analog Undervoltage Input.", 4 VEE (power) "Negative Supply Voltage Input. Connect to the lower potential of the power supply.", 5 SENSE (in) "Circuit Breaker Sense Pin.", 6 GATE (out) "Gate Drive Output for the External N-channel MOSFET.", 7 DRAIN (in) "Analog Drain Sense Input.", 8 VDD (power) "Positive Supply Voltage Input."

## LT4250LIS8#TRPBF
designator U?
Negative 48 V Hot Swap Controller, -18 to -80 V Vin, 8-pin SOIC (S8-8), -40 to 85 degC, Pb-Free, Tape and Reel; Manufacturer: Linear Technology; PartNumber: LT4250LIS8#TRPBF; Active Limiting: yes; Circuit Breaker Accuracy(%): 20; Circuit Breaker Threshold: 50 mV; Circuit Breakers(#): 1; Extended Temp: C, I; Fast Comparator: no; In-Rush Current: Miller Cap; DatasheetVersion: Rev. A; PackageVersion: Rev. G, 03/2012; PackageReference: S8-8; PackageDescription: 8-Pin Plastic Small Outline (Narrow .150 Inch), Body 4.9 x 3.9 mm, Pitch 1.27 mm; Supplier 1: Digi-Key; Supplier Part Number 1: LT4250LIS8#TRPBF-ND; Supplier 2: Newark; Supplier Part Number 2: 57M8672; Fault: no; Foldback: no; Packing: Tape and Reel; Power Good: yes; Reset: no; RoHS: TRUE; Vin Range: -18 to -80 V; Mounting Technology: Surface Mount; ComponentLink1Description: Manufacturer URL; ComponentLink1URL: http://www.linear.com/; ComponentLink2Description: Datasheet; ComponentLink2URL: http://cds.linear.com/docs/en/datasheet/4250lhfa.pdf; ComponentLink3Description: Package Specification; ComponentLink3URL: http://cds.linear.com/docs/en/packaging/05081610_G_SO8.pdf
footprint LT-S8-8_N (SOIC, 8-Leads, Body 5x4mm, Pitch 1.27mm, IPC Medium Density)
footprint LT-S8-8_L (SOIC, 8-Leads, Body 5x4mm, Pitch 1.27mm, IPC High Density)
footprint LT-S8-8_M (SOIC, 8-Leads, Body 5x4mm, Pitch 1.27mm, IPC Low Density)
pins: 1 ~{PWRGD} (hiz) "Power Good Output Pin.This pin will latch a power good indication when VDRAIN is within VDL of VEE and VGATE is within VGH of deltaVGATE. This pin can be connected directly to the enable pin of a power module.", 2 OV (in) "Analog Overvoltage Input.", 3 UV (in) "Analog Undervoltage Input.", 4 VEE (power) "Negative Supply Voltage Input. Connect to the lower potential of the power supply.", 5 SENSE (in) "Circuit Breaker Sense Pin.", 6 GATE (out) "Gate Drive Output for the External N-channel MOSFET.", 7 DRAIN (in) "Analog Drain Sense Input.", 8 VDD (power) "Positive Supply Voltage Input."

## LT4254CGN
designator U?
Positive High Voltage Hot Swap Controller with Open-Circuit Detect, 10.8 to 36 V Vin, 16-pin SOP (GN-16), 0 to 70 degC; Manufacturer: Linear Technology; PartNumber: LT4254CGN; Active Limiting: yes; Circuit Breaker Accuracy(%): 20; Circuit Breaker Threshold: 50 mV; Circuit Breakers(#): 1; Extended Temp: C, I; Fast Comparator: no; In-Rush Current: Active; DatasheetVersion: Rev. B; PackageVersion: Rev. B, 03/2012; PackageReference: GN-16; PackageDescription: 16-Pin Plastic SSOP, Body 4.9 x 3.9 mm, Pitch 0.635 mm; Fault: no; Foldback: yes; Power Good: yes; Reset: no; RoHS: FALSE; Vin Range: 10.8 to 36 V; Mounting Technology: Surface Mount; ComponentLink1Description: Manufacturer URL; ComponentLink1URL: http://www.linear.com/; ComponentLink2Description: Datasheet; ComponentLink2URL: http://cds.linear.com/docs/en/datasheet/4254fb.pdf; ComponentLink3Description: Package Specification; ComponentLink3URL: http://cds.linear.com/docs/en/packaging/05081641_B_GN16.pdf
footprint LT-GN-16_N (SOP, 16-Leads, Body 5x4mm, Pitch 0.635mm, IPC Medium Density)
footprint LT-GN-16_L (SOP, 16-Leads, Body 5x4mm, Pitch 0.635mm, IPC High Density)
footprint LT-GN-16_M (SOP, 16-Leads, Body 5x4mm, Pitch 0.635mm, IPC Low Density)
pins: 1 UV (in) "Undervoltage Sense. UV is an input that enables the output voltage. When the UV pin is driven above 4V, the GATE pin starts charging and the output turns on. When the UV pin goes below 3.6V, the GATE pin discharges and the (See Datasheet)", 2 OV (in) "Overvoltage Sense. OV is an input that disables the output voltage. If OV ever goes above 4V, the GATE pin is discharged and the output shuts off. When OV goes below 3.6V, the GATE pin starts charging and the output turns (See Datasheet)", 3 NC, 4 OPEN (oc) "Open Circuit Detect Output. This pin is an open collector output that releases and is pulled high through an external resistor if the load current is less than (3.5mV/R5). If not used, leave this pin disconnected.", 5 PWRGD (hiz) "Open Collector Output to GND. PWRGD is pulled low whenever the voltage on FB falls below the high-to-low threshold voltage. It goes into a high impedance state when the voltage on FB exceeds the low-to-high threshold voltage.(See Datasheet)", 6 NC, 7 RETRY (in) "Current Fault Retry. RETRY commands the operational mode of the current limit. If the RETRY pin is floating, the LT4254 automatically restarts after a current fault. If it is connected to a voltage below 0.4V, the part (See Datasheet)", 8 GND (power) "Device Ground. This pin must be tied to a ground plane for best performance.", 9 TIMER (in) "Timing Input. An external timing capacitor from TIMER to GND programs the maximum time the part is allowed to remain in current limit. When the part goes into current limit, a 120uA pull-up current starts to charge the (See Datasheet)", 10 FB (in) "Power Good Comparator Input. FB monitors the output voltage through an external resistive divider. When the voltage on the FB pin is lower than the high-to-low threshold of 4V, the PWRGD pin is pulled low and released when (See Datasheet)", 11 NC, 12 NC, 13 GATE (out) "High Side Gate Drive for the External N-Channel MOSFET. An internal charge pump guarantees at least 10V of gate drive for VCC supply voltages above 20V and 4.5V gate drive for VCC supply voltages between 10.8V and 20V. The (See Datasheet)", 14 NC, 15 SENSE (in) "Current Limit Sense. A sense resistor is placed in the supply path between VCC and SENSE. The current limit circuit regulates the voltage across the sense resistor (VCC - SENSE) to 50mV while in current limit when FB is 2V (See Datasheet)", 16 VCC (power) "Input Supply Voltage. The positive supply input ranges from 10.8V to 36V for normal operation. ICC is typically 1.9mA. An internal circuit disables the LT4254 for inputs less than 9.8V (typ)."

## LT4254CGN#PBF
designator U?
Positive High Voltage Hot Swap Controller with Open-Circuit Detect, 10.8 to 36 V Vin, 16-pin SOP (GN-16), 0 to 70 degC, Pb-Free; Manufacturer: Linear Technology; PartNumber: LT4254CGN#PBF; Active Limiting: yes; Circuit Breaker Accuracy(%): 20; Circuit Breaker Threshold: 50 mV; Circuit Breakers(#): 1; Extended Temp: C, I; Fast Comparator: no; In-Rush Current: Active; DatasheetVersion: Rev. B; PackageVersion: Rev. B, 03/2012; PackageReference: GN-16; PackageDescription: 16-Pin Plastic SSOP, Body 4.9 x 3.9 mm, Pitch 0.635 mm; Supplier 1: Digi-Key; Supplier Part Number 1: LT4254CGN#PBF-ND; Supplier 2: Newark; Supplier Part Number 2: 57M8674; Fault: no; Foldback: yes; Power Good: yes; Reset: no; RoHS: TRUE; Vin Range: 10.8 to 36 V; Mounting Technology: Surface Mount; ComponentLink1Description: Manufacturer URL; ComponentLink1URL: http://www.linear.com/; ComponentLink2Description: Datasheet; ComponentLink2URL: http://cds.linear.com/docs/en/datasheet/4254fb.pdf; ComponentLink3Description: Package Specification; ComponentLink3URL: http://cds.linear.com/docs/en/packaging/05081641_B_GN16.pdf
footprint LT-GN-16_N (SOP, 16-Leads, Body 5x4mm, Pitch 0.635mm, IPC Medium Density)
footprint LT-GN-16_L (SOP, 16-Leads, Body 5x4mm, Pitch 0.635mm, IPC High Density)
footprint LT-GN-16_M (SOP, 16-Leads, Body 5x4mm, Pitch 0.635mm, IPC Low Density)
pins: 1 UV (in) "Undervoltage Sense. UV is an input that enables the output voltage. When the UV pin is driven above 4V, the GATE pin starts charging and the output turns on. When the UV pin goes below 3.6V, the GATE pin discharges and the (See Datasheet)", 2 OV (in) "Overvoltage Sense. OV is an input that disables the output voltage. If OV ever goes above 4V, the GATE pin is discharged and the output shuts off. When OV goes below 3.6V, the GATE pin starts charging and the output turns (See Datasheet)", 3 NC, 4 OPEN (oc) "Open Circuit Detect Output. This pin is an open collector output that releases and is pulled high through an external resistor if the load current is less than (3.5mV/R5). If not used, leave this pin disconnected.", 5 PWRGD (hiz) "Open Collector Output to GND. PWRGD is pulled low whenever the voltage on FB falls below the high-to-low threshold voltage. It goes into a high impedance state when the voltage on FB exceeds the low-to-high threshold voltage.(See Datasheet)", 6 NC, 7 RETRY (in) "Current Fault Retry. RETRY commands the operational mode of the current limit. If the RETRY pin is floating, the LT4254 automatically restarts after a current fault. If it is connected to a voltage below 0.4V, the part (See Datasheet)", 8 GND (power) "Device Ground. This pin must be tied to a ground plane for best performance.", 9 TIMER (in) "Timing Input. An external timing capacitor from TIMER to GND programs the maximum time the part is allowed to remain in current limit. When the part goes into current limit, a 120uA pull-up current starts to charge the (See Datasheet)", 10 FB (in) "Power Good Comparator Input. FB monitors the output voltage through an external resistive divider. When the voltage on the FB pin is lower than the high-to-low threshold of 4V, the PWRGD pin is pulled low and released when (See Datasheet)", 11 NC, 12 NC, 13 GATE (out) "High Side Gate Drive for the External N-Channel MOSFET. An internal charge pump guarantees at least 10V of gate drive for VCC supply voltages above 20V and 4.5V gate drive for VCC supply voltages between 10.8V and 20V. The (See Datasheet)", 14 NC, 15 SENSE (in) "Current Limit Sense. A sense resistor is placed in the supply path between VCC and SENSE. The current limit circuit regulates the voltage across the sense resistor (VCC - SENSE) to 50mV while in current limit when FB is 2V (See Datasheet)", 16 VCC (power) "Input Supply Voltage. The positive supply input ranges from 10.8V to 36V for normal operation. ICC is typically 1.9mA. An internal circuit disables the LT4254 for inputs less than 9.8V (typ)."

## LT4254CGN#TR
designator U?
Positive High Voltage Hot Swap Controller with Open-Circuit Detect, 10.8 to 36 V Vin, 16-pin SOP (GN-16), 0 to 70 degC, Tape and Reel; Manufacturer: Linear Technology; PartNumber: LT4254CGN#TR; Active Limiting: yes; Circuit Breaker Accuracy(%): 20; Circuit Breaker Threshold: 50 mV; Circuit Breakers(#): 1; Extended Temp: C, I; Fast Comparator: no; In-Rush Current: Active; DatasheetVersion: Rev. B; PackageVersion: Rev. B, 03/2012; PackageReference: GN-16; PackageDescription: 16-Pin Plastic SSOP, Body 4.9 x 3.9 mm, Pitch 0.635 mm; Supplier 1: Digi-Key; Supplier Part Number 1: LT4254CGN#TR-ND; Fault: no; Foldback: yes; Packing: Tape and Reel; Power Good: yes; Reset: no; RoHS: FALSE; Vin Range: 10.8 to 36 V; Mounting Technology: Surface Mount; ComponentLink1Description: Manufacturer URL; ComponentLink1URL: http://www.linear.com/; ComponentLink2Description: Datasheet; ComponentLink2URL: http://cds.linear.com/docs/en/datasheet/4254fb.pdf; ComponentLink3Description: Package Specification; ComponentLink3URL: http://cds.linear.com/docs/en/packaging/05081641_B_GN16.pdf
footprint LT-GN-16_N (SOP, 16-Leads, Body 5x4mm, Pitch 0.635mm, IPC Medium Density)
footprint LT-GN-16_L (SOP, 16-Leads, Body 5x4mm, Pitch 0.635mm, IPC High Density)
footprint LT-GN-16_M (SOP, 16-Leads, Body 5x4mm, Pitch 0.635mm, IPC Low Density)
pins: 1 UV (in) "Undervoltage Sense. UV is an input that enables the output voltage. When the UV pin is driven above 4V, the GATE pin starts charging and the output turns on. When the UV pin goes below 3.6V, the GATE pin discharges and the (See Datasheet)", 2 OV (in) "Overvoltage Sense. OV is an input that disables the output voltage. If OV ever goes above 4V, the GATE pin is discharged and the output shuts off. When OV goes below 3.6V, the GATE pin starts charging and the output turns (See Datasheet)", 3 NC, 4 OPEN (oc) "Open Circuit Detect Output. This pin is an open collector output that releases and is pulled high through an external resistor if the load current is less than (3.5mV/R5). If not used, leave this pin disconnected.", 5 PWRGD (hiz) "Open Collector Output to GND. PWRGD is pulled low whenever the voltage on FB falls below the high-to-low threshold voltage. It goes into a high impedance state when the voltage on FB exceeds the low-to-high threshold voltage.(See Datasheet)", 6 NC, 7 RETRY (in) "Current Fault Retry. RETRY commands the operational mode of the current limit. If the RETRY pin is floating, the LT4254 automatically restarts after a current fault. If it is connected to a voltage below 0.4V, the part (See Datasheet)", 8 GND (power) "Device Ground. This pin must be tied to a ground plane for best performance.", 9 TIMER (in) "Timing Input. An external timing capacitor from TIMER to GND programs the maximum time the part is allowed to remain in current limit. When the part goes into current limit, a 120uA pull-up current starts to charge the (See Datasheet)", 10 FB (in) "Power Good Comparator Input. FB monitors the output voltage through an external resistive divider. When the voltage on the FB pin is lower than the high-to-low threshold of 4V, the PWRGD pin is pulled low and released when (See Datasheet)", 11 NC, 12 NC, 13 GATE (out) "High Side Gate Drive for the External N-Channel MOSFET. An internal charge pump guarantees at least 10V of gate drive for VCC supply voltages above 20V and 4.5V gate drive for VCC supply voltages between 10.8V and 20V. The (See Datasheet)", 14 NC, 15 SENSE (in) "Current Limit Sense. A sense resistor is placed in the supply path between VCC and SENSE. The current limit circuit regulates the voltage across the sense resistor (VCC - SENSE) to 50mV while in current limit when FB is 2V (See Datasheet)", 16 VCC (power) "Input Supply Voltage. The positive supply input ranges from 10.8V to 36V for normal operation. ICC is typically 1.9mA. An internal circuit disables the LT4254 for inputs less than 9.8V (typ)."

## LT4254CGN#TRPBF
designator U?
Positive High Voltage Hot Swap Controller with Open-Circuit Detect, 10.8 to 36 V Vin, 16-pin SOP (GN-16), 0 to 70 degC, Pb-Free, Tape and Reel; Manufacturer: Linear Technology; PartNumber: LT4254CGN#TRPBF; Active Limiting: yes; Circuit Breaker Accuracy(%): 20; Circuit Breaker Threshold: 50 mV; Circuit Breakers(#): 1; Extended Temp: C, I; Fast Comparator: no; In-Rush Current: Active; DatasheetVersion: Rev. B; PackageVersion: Rev. B, 03/2012; PackageReference: GN-16; PackageDescription: 16-Pin Plastic SSOP, Body 4.9 x 3.9 mm, Pitch 0.635 mm; Supplier 1: Digi-Key; Supplier Part Number 1: LT4254CGN#TRPBF-ND; Fault: no; Foldback: yes; Packing: Tape and Reel; Power Good: yes; Reset: no; RoHS: TRUE; Vin Range: 10.8 to 36 V; Mounting Technology: Surface Mount; ComponentLink1Description: Manufacturer URL; ComponentLink1URL: http://www.linear.com/; ComponentLink2Description: Datasheet; ComponentLink2URL: http://cds.linear.com/docs/en/datasheet/4254fb.pdf; ComponentLink3Description: Package Specification; ComponentLink3URL: http://cds.linear.com/docs/en/packaging/05081641_B_GN16.pdf
footprint LT-GN-16_N (SOP, 16-Leads, Body 5x4mm, Pitch 0.635mm, IPC Medium Density)
footprint LT-GN-16_L (SOP, 16-Leads, Body 5x4mm, Pitch 0.635mm, IPC High Density)
footprint LT-GN-16_M (SOP, 16-Leads, Body 5x4mm, Pitch 0.635mm, IPC Low Density)
pins: 1 UV (in) "Undervoltage Sense. UV is an input that enables the output voltage. When the UV pin is driven above 4V, the GATE pin starts charging and the output turns on. When the UV pin goes below 3.6V, the GATE pin discharges and the (See Datasheet)", 2 OV (in) "Overvoltage Sense. OV is an input that disables the output voltage. If OV ever goes above 4V, the GATE pin is discharged and the output shuts off. When OV goes below 3.6V, the GATE pin starts charging and the output turns (See Datasheet)", 3 NC, 4 OPEN (oc) "Open Circuit Detect Output. This pin is an open collector output that releases and is pulled high through an external resistor if the load current is less than (3.5mV/R5). If not used, leave this pin disconnected.", 5 PWRGD (hiz) "Open Collector Output to GND. PWRGD is pulled low whenever the voltage on FB falls below the high-to-low threshold voltage. It goes into a high impedance state when the voltage on FB exceeds the low-to-high threshold voltage.(See Datasheet)", 6 NC, 7 RETRY (in) "Current Fault Retry. RETRY commands the operational mode of the current limit. If the RETRY pin is floating, the LT4254 automatically restarts after a current fault. If it is connected to a voltage below 0.4V, the part (See Datasheet)", 8 GND (power) "Device Ground. This pin must be tied to a ground plane for best performance.", 9 TIMER (in) "Timing Input. An external timing capacitor from TIMER to GND programs the maximum time the part is allowed to remain in current limit. When the part goes into current limit, a 120uA pull-up current starts to charge the (See Datasheet)", 10 FB (in) "Power Good Comparator Input. FB monitors the output voltage through an external resistive divider. When the voltage on the FB pin is lower than the high-to-low threshold of 4V, the PWRGD pin is pulled low and released when (See Datasheet)", 11 NC, 12 NC, 13 GATE (out) "High Side Gate Drive for the External N-Channel MOSFET. An internal charge pump guarantees at least 10V of gate drive for VCC supply voltages above 20V and 4.5V gate drive for VCC supply voltages between 10.8V and 20V. The (See Datasheet)", 14 NC, 15 SENSE (in) "Current Limit Sense. A sense resistor is placed in the supply path between VCC and SENSE. The current limit circuit regulates the voltage across the sense resistor (VCC - SENSE) to 50mV while in current limit when FB is 2V (See Datasheet)", 16 VCC (power) "Input Supply Voltage. The positive supply input ranges from 10.8V to 36V for normal operation. ICC is typically 1.9mA. An internal circuit disables the LT4254 for inputs less than 9.8V (typ)."